# Altium footprint library Keystone_3034.PcbLib: 1 footprints
Each footprint in its own frame and in the unit in brackets; x right, y up, seen from the top. Pads: shape width x height; smd on the part's side, far side on the other; paste and mask are expansions set on the pad; w line width, h text height; cw(c..) or ccw(c..) is an arc to the next point about the centre after c.
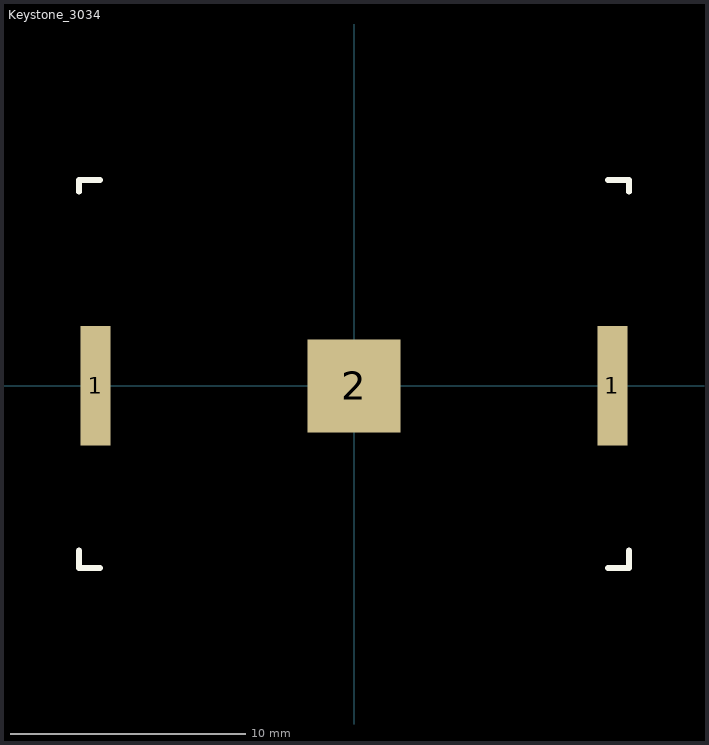
[diagram p0: the footprint, top view; thin cyan lines are the x and y axes]

## Keystone_3034 [mm]
pads (3):
  rect 1.27x5.08 smd: 1(-10.985,0) 1(10.985,0)
  rect 3.96x3.96 smd: 2(0,0)
Top Overlay:
  lines w0.254: -11.684,-6.985 -11.684,-7.747 -10.795,-7.747 ; -11.684,8.255 -11.684,8.763 -10.795,8.763 ; 10.795,-7.747 11.684,-7.747 11.684,-6.985 ; 10.795,8.763 11.684,8.763 11.684,8.255
3D body "keystone-PN3034.STEP": height 4.05, standoff -0.01, extent -11.621,-7.747 11.621,8.732